# EAGLE library part RT314?* (library Relays - Power Relays)
Power PCB Relay RT1 bistable 1 pole 16A, 1 form C (CO) or 1 form A (NO) contact Polarized bistable version with 1 or 2 coils (A3 is common positive) 3V to 24V coils F = 2 coils, A = 1 coil (no A3 pin)
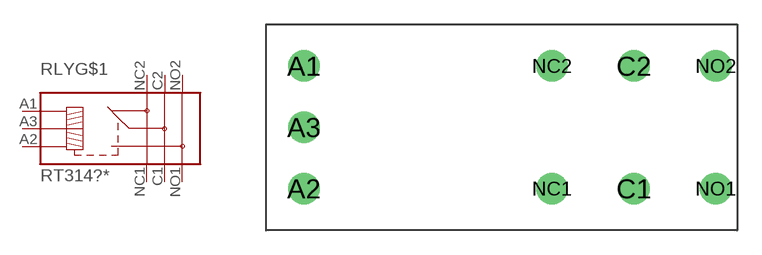
[diagram p0: symbol with the pads of CO; footprint CO]

Designator prefix RLY; gates G$1=SPDT G$2=NC C=2COIL

## RT314F03, RT314F05, RT314F06, RT314F12, RT314F24  [CO]
A1  G$1:A1
A2  G$1:A2
A3  C:A3
C1  G$1:C1
C2  G$1:C2
NC1  G$2:NC1
NC2  G$2:NC2
NO1  G$1:NO1
NO2  G$1:NO2

## Footprint CO (pad centres in mm)
drill 1.3: A1 -20.3,3.78; A2 -20.3,-3.78; A3 -20.3,0; C1 0,-3.78; C2 0,3.78; NC1 -5.04,-3.78; NC2 -5.04,3.78; NO1 5.04,-3.78; NO2 5.04,3.78